# Altium footprint library AUVic_PCB_Library_Microprocessors.PcbLib: 24 footprints (part 1 of 2)
Each footprint in its own frame and in the unit in brackets; x right, y up, seen from the top. Pads: shape width x height; smd on the part's side, far side on the other; paste and mask are expansions set on the pad; w line width, h text height; cw(c..) or ccw(c..) is an arc to the next point about the centre after c.
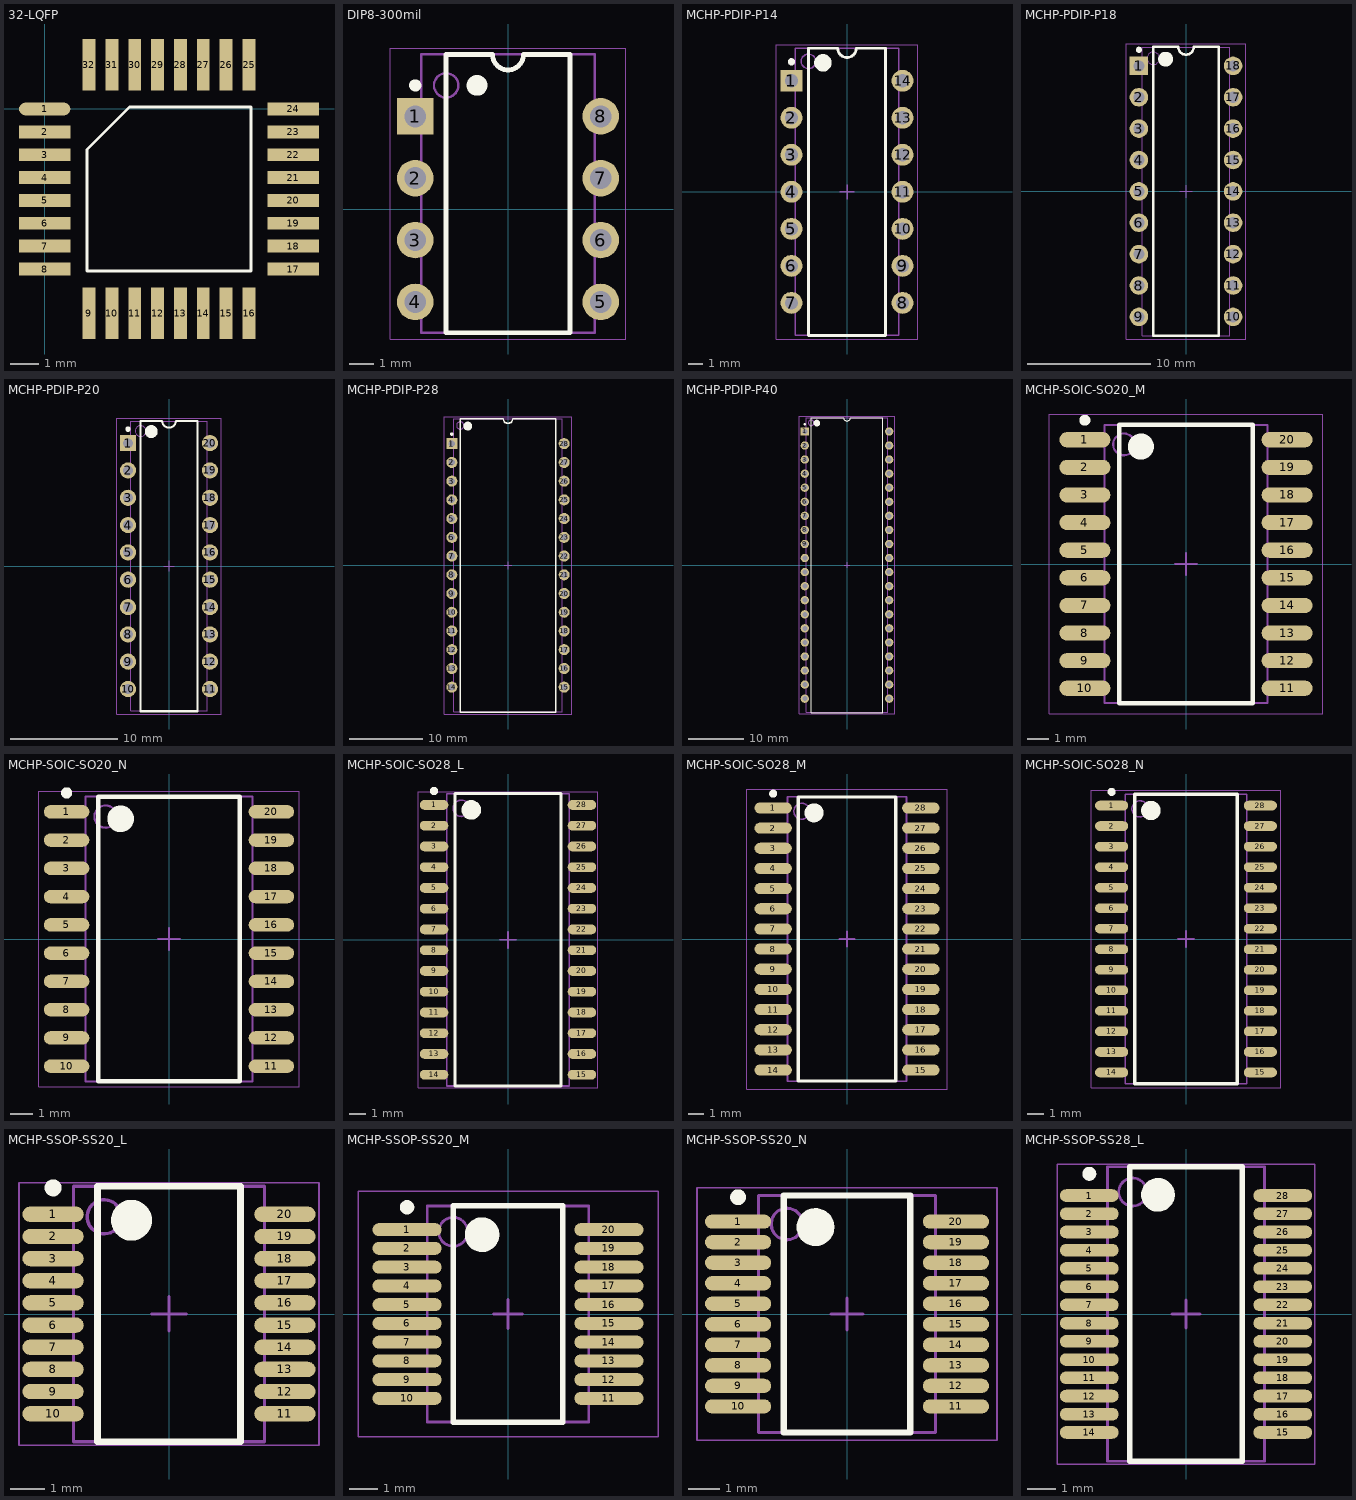
[diagram p0: the footprints below, top view; thin cyan lines are the x and y axes]

## 32-LQFP [mm]
pads (32):
  oval 1.8x0.45 smd: 1(0,0)
  rect 1.8x0.45 smd: 2(0,-0.8) 3(0,-1.6) 4(0,-2.4) 5(0,-3.2) 6(0,-4) 7(0,-4.8) 8(0,-5.6) 17(8.7,-5.6) 18(8.7,-4.8) 19(8.7,-4) 20(8.7,-3.2) 21(8.7,-2.4) 22(8.7,-1.6) 23(8.7,-0.8) 24(8.7,0)
  rect 0.45x1.8 smd: 9(1.55,-7.15) 10(2.35,-7.15) 11(3.15,-7.15) 12(3.95,-7.15) 13(4.75,-7.15) 14(5.55,-7.15) 15(6.35,-7.15) 16(7.15,-7.15) 25(7.15,1.55) 26(6.35,1.55) 27(5.55,1.55) 28(4.75,1.55) 29(3.95,1.55) 30(3.15,1.55) 31(2.35,1.55) 32(1.55,1.55)
Top Overlay:
  lines w0.1: 1.485,-5.665 7.215,-5.665 7.215,0.065 2.97,0.065 1.485,-1.42 1.485,-5.665
3D body "User Library-LQFP32-2.STEP": height 1.62, standoff -0.01, extent -0.172,-7.372 8.972,1.772

## DIP8-300mil [mm] "DIP8, 100mil pitch, 300mil wide"
pads (8):
  rect 1.5x1.5 hole 0.9: 1(-3.81,3.81)
  round 1.5 hole 0.9: 2(-3.81,1.27) 3(-3.81,-1.27) 4(-3.81,-3.81) 5(3.81,-3.81) 6(3.81,-1.27) 7(3.81,1.27) 8(3.81,3.81)
Top Overlay:
  circle w0.25: c-3.81,5.08 r0.125
  circle w0.6: c-1.27,5.08 r0.125
  lines w0.2: -2.54,-5.08 2.54,-5.08 2.54,6.35 0.635,6.35 cw(c0,6.35) -0.635,6.35 -2.54,6.35 -2.54,-5.08
Body Top:
  circle w0.1: c-2.54,5.08 r0.5
  lines w0.1: -3.556,-5.08 -3.556,6.35 3.556,6.35 3.556,-5.08 -3.556,-5.08
  text ".Designator" at 1.2,-5.5 h1
Courtyard Top:
  lines w0.05: -4.826,-5.334 -4.826,6.604 4.826,6.604 4.826,-5.334 -4.826,-5.334
3D body "CircuitWorks-DIP8(The Good One).step": height 4.19, standoff -2.67, extent -4.064,-5.715 3.81,5.715

## MCHP-PDIP-P14 [mm] "DIP, 14-Leads, Body 19.177x6.604mm, Pitch 2.54mm"
height 5.34
pads (14):
  rect 1.5x1.5 hole 0.9: 1(-3.81,7.62)
  round 1.5 hole 0.9: 2(-3.81,5.08) 3(-3.81,2.54) 4(-3.81,0) 5(-3.81,-2.54) 6(-3.81,-5.08) 7(-3.81,-7.62) 8(3.81,-7.62) 9(3.81,-5.08) 10(3.81,-2.54) 11(3.81,0) 12(3.81,2.54) 13(3.81,5.08) 14(3.81,7.62)
Top Overlay:
  circle w0.6: c-1.65,8.85 r0.3
  circle w0.25: c-3.81,8.92 r0.125
  lines w0.2: -2.65,-9.85 2.65,-9.85 2.65,9.85 0.635,9.85 cw(c0,9.85) -0.635,9.85 -2.65,9.85 -2.65,-9.85
Body Top:
  circle w0.1: c-2.65,8.95 r0.5
  lines w0.1: -3.55,-9.85 3.55,-9.85 3.55,9.85 -3.55,9.85 -3.55,-9.85
  text ".Designator" at 1.2,-5.5 h1
Courtyard Top:
  lines w0.05: -4.85,-10.1 4.85,-10.1 4.85,10.1 -4.85,10.1 -4.85,-10.1
  lines w0.1: -0.5,0 0.5,0 ; 0,-0.5 0,0.5
3D body: height 5.34, standoff 0.38, extent -3.55,-9.85 3.55,9.85
3D body: height 0, standoff -1.6, extent 3.675,7.26 3.945,7.98
3D body: height 3, standoff 2.72, extent 3.55,7.12 3.945,8.12
3D body: height 2.73, standoff 0, extent 3.675,7.12 3.945,8.12
3D body: height 0, standoff -1.6, extent 3.675,4.72 3.945,5.44
3D body: height 3, standoff 2.72, extent 3.55,4.58 3.945,5.58
3D body: height 2.73, standoff 0, extent 3.675,4.58 3.945,5.58
3D body: height 0, standoff -1.6, extent 3.675,2.18 3.945,2.9
3D body: height 3, standoff 2.72, extent 3.55,2.04 3.945,3.04
3D body: height 2.73, standoff 0, extent 3.675,2.04 3.945,3.04
3D body: height 0, standoff -1.6, extent 3.675,-0.36 3.945,0.36
3D body: height 3, standoff 2.72, extent 3.55,-0.5 3.945,0.5
3D body: height 2.73, standoff 0, extent 3.675,-0.5 3.945,0.5
3D body: height 0, standoff -1.6, extent 3.675,-2.9 3.945,-2.18
3D body: height 3, standoff 2.72, extent 3.55,-3.04 3.945,-2.04
3D body: height 2.73, standoff 0, extent 3.675,-3.04 3.945,-2.04
3D body: height 0, standoff -1.6, extent 3.675,-5.44 3.945,-4.72
3D body: height 3, standoff 2.72, extent 3.55,-5.58 3.945,-4.58
3D body: height 2.73, standoff 0, extent 3.675,-5.58 3.945,-4.58
3D body: height 0, standoff -1.6, extent 3.675,-7.98 3.945,-7.26
3D body: height 3, standoff 2.72, extent 3.55,-8.12 3.945,-7.12
3D body: height 2.73, standoff 0, extent 3.675,-8.12 3.945,-7.12
3D body: height 0, standoff -1.6, extent -3.945,-7.98 -3.675,-7.26
3D body: height 3, standoff 2.72, extent -3.945,-8.12 -3.55,-7.12
3D body: height 2.73, standoff 0, extent -3.945,-8.12 -3.675,-7.12
3D body: height 0, standoff -1.6, extent -3.945,-5.44 -3.675,-4.72
3D body: height 3, standoff 2.72, extent -3.945,-5.58 -3.55,-4.58
3D body: height 2.73, standoff 0, extent -3.945,-5.58 -3.675,-4.58
3D body: height 0, standoff -1.6, extent -3.945,-2.9 -3.675,-2.18
3D body: height 3, standoff 2.72, extent -3.945,-3.04 -3.55,-2.04
3D body: height 2.73, standoff 0, extent -3.945,-3.04 -3.675,-2.04
3D body: height 0, standoff -1.6, extent -3.945,-0.36 -3.675,0.36
3D body: height 3, standoff 2.72, extent -3.945,-0.5 -3.55,0.5
3D body: height 2.73, standoff 0, extent -3.945,-0.5 -3.675,0.5
3D body: height 0, standoff -1.6, extent -3.945,2.18 -3.675,2.9
3D body: height 3, standoff 2.72, extent -3.945,2.04 -3.55,3.04
3D body: height 2.73, standoff 0, extent -3.945,2.04 -3.675,3.04
3D body: height 0, standoff -1.6, extent -3.945,4.72 -3.675,5.44
3D body: height 3, standoff 2.72, extent -3.945,4.58 -3.55,5.58
3D body: height 2.73, standoff 0, extent -3.945,4.58 -3.675,5.58
3D body: height 0, standoff -1.6, extent -3.945,7.26 -3.675,7.98
3D body: height 3, standoff 2.72, extent -3.945,7.12 -3.55,8.12
3D body: height 2.73, standoff 0, extent -3.945,7.12 -3.675,8.12

## MCHP-PDIP-P18 [mm] "DIP, 18-Leads, Body 22.83x6.604mm, Pitch 2.54mm"
height 5.33
pads (18):
  rect 1.5x1.5 hole 0.9: 1(-3.81,10.16)
  round 1.5 hole 0.9: 2(-3.81,7.62) 3(-3.81,5.08) 4(-3.81,2.54) 5(-3.81,0) 6(-3.81,-2.54) 7(-3.81,-5.08) 8(-3.81,-7.62) 9(-3.81,-10.16) 10(3.81,-10.16) 11(3.81,-7.62) 12(3.81,-5.08) 13(3.81,-2.54) 14(3.81,0) 15(3.81,2.54) 16(3.81,5.08) 17(3.81,7.62) 18(3.81,10.16)
Top Overlay:
  circle w0.6: c-1.65,10.7 r0.3
  circle w0.25: c-3.81,11.46 r0.125
  lines w0.2: -2.65,-11.7 2.65,-11.7 2.65,11.7 0.635,11.7 cw(c0,11.7) -0.635,11.7 -2.65,11.7 -2.65,-11.7
Body Top:
  circle w0.1: c-2.65,10.775 r0.5
  lines w0.1: -3.55,-11.675 3.55,-11.675 3.55,11.675 -3.55,11.675 -3.55,-11.675
  text ".Designator" at 1.2,-5.5 h1
Courtyard Top:
  lines w0.05: -4.85,-11.95 4.85,-11.95 4.85,11.95 -4.85,11.95 -4.85,-11.95
  lines w0.1: -0.5,0 0.5,0 ; 0,-0.5 0,0.5
3D body: height 5.33, standoff 0.38, extent -3.55,-11.675 3.55,11.675
3D body: height 0, standoff -1.6, extent 3.675,9.8 3.945,10.52
3D body: height 2.99, standoff 2.72, extent 3.55,9.66 3.945,10.66
3D body: height 2.72, standoff 0, extent 3.675,9.66 3.945,10.66
3D body: height 0, standoff -1.6, extent 3.675,7.26 3.945,7.98
3D body: height 2.99, standoff 2.72, extent 3.55,7.12 3.945,8.12
3D body: height 2.72, standoff 0, extent 3.675,7.12 3.945,8.12
3D body: height 0, standoff -1.6, extent 3.675,4.72 3.945,5.44
3D body: height 2.99, standoff 2.72, extent 3.55,4.58 3.945,5.58
3D body: height 2.72, standoff 0, extent 3.675,4.58 3.945,5.58
3D body: height 0, standoff -1.6, extent 3.675,2.18 3.945,2.9
3D body: height 2.99, standoff 2.72, extent 3.55,2.04 3.945,3.04
3D body: height 2.72, standoff 0, extent 3.675,2.04 3.945,3.04
3D body: height 0, standoff -1.6, extent 3.675,-0.36 3.945,0.36
3D body: height 2.99, standoff 2.72, extent 3.55,-0.5 3.945,0.5
3D body: height 2.72, standoff 0, extent 3.675,-0.5 3.945,0.5
3D body: height 0, standoff -1.6, extent 3.675,-2.9 3.945,-2.18
3D body: height 2.99, standoff 2.72, extent 3.55,-3.04 3.945,-2.04
3D body: height 2.72, standoff 0, extent 3.675,-3.04 3.945,-2.04
3D body: height 0, standoff -1.6, extent 3.675,-5.44 3.945,-4.72
3D body: height 2.99, standoff 2.72, extent 3.55,-5.58 3.945,-4.58
3D body: height 2.72, standoff 0, extent 3.675,-5.58 3.945,-4.58
3D body: height 0, standoff -1.6, extent 3.675,-7.98 3.945,-7.26
3D body: height 2.99, standoff 2.72, extent 3.55,-8.12 3.945,-7.12
3D body: height 2.72, standoff 0, extent 3.675,-8.12 3.945,-7.12
3D body: height 0, standoff -1.6, extent 3.675,-10.52 3.945,-9.8
3D body: height 2.99, standoff 2.72, extent 3.55,-10.66 3.945,-9.66
3D body: height 2.72, standoff 0, extent 3.675,-10.66 3.945,-9.66
3D body: height 0, standoff -1.6, extent -3.945,-10.52 -3.675,-9.8
3D body: height 2.99, standoff 2.72, extent -3.945,-10.66 -3.55,-9.66
3D body: height 2.72, standoff 0, extent -3.945,-10.66 -3.675,-9.66
3D body: height 0, standoff -1.6, extent -3.945,-7.98 -3.675,-7.26
3D body: height 2.99, standoff 2.72, extent -3.945,-8.12 -3.55,-7.12
3D body: height 2.72, standoff 0, extent -3.945,-8.12 -3.675,-7.12
3D body: height 0, standoff -1.6, extent -3.945,-5.44 -3.675,-4.72
3D body: height 2.99, standoff 2.72, extent -3.945,-5.58 -3.55,-4.58
3D body: height 2.72, standoff 0, extent -3.945,-5.58 -3.675,-4.58
3D body: height 0, standoff -1.6, extent -3.945,-2.9 -3.675,-2.18
3D body: height 2.99, standoff 2.72, extent -3.945,-3.04 -3.55,-2.04
3D body: height 2.72, standoff 0, extent -3.945,-3.04 -3.675,-2.04
3D body: height 0, standoff -1.6, extent -3.945,-0.36 -3.675,0.36
3D body: height 2.99, standoff 2.72, extent -3.945,-0.5 -3.55,0.5
3D body: height 2.72, standoff 0, extent -3.945,-0.5 -3.675,0.5
3D body: height 0, standoff -1.6, extent -3.945,2.18 -3.675,2.9
3D body: height 2.99, standoff 2.72, extent -3.945,2.04 -3.55,3.04
3D body: height 2.72, standoff 0, extent -3.945,2.04 -3.675,3.04
3D body: height 0, standoff -1.6, extent -3.945,4.72 -3.675,5.44
3D body: height 2.99, standoff 2.72, extent -3.945,4.58 -3.55,5.58
3D body: height 2.72, standoff 0, extent -3.945,4.58 -3.675,5.58
3D body: height 0, standoff -1.6, extent -3.945,7.26 -3.675,7.98
3D body: height 2.99, standoff 2.72, extent -3.945,7.12 -3.55,8.12
3D body: height 2.72, standoff 0, extent -3.945,7.12 -3.675,8.12
3D body: height 0, standoff -1.6, extent -3.945,9.8 -3.675,10.52
3D body: height 2.99, standoff 2.72, extent -3.945,9.66 -3.55,10.66
3D body: height 2.72, standoff 0, extent -3.945,9.66 -3.675,10.66

## MCHP-PDIP-P20 [mm] "DIP, 20-Leads, Body 25.91x6.6mm, Pitch 2.54mm"
height 5.34
pads (20):
  rect 1.5x1.5 hole 0.9: 1(-3.81,11.43)
  round 1.5 hole 0.9: 2(-3.81,8.89) 3(-3.81,6.35) 4(-3.81,3.81) 5(-3.81,1.27) 6(-3.81,-1.27) 7(-3.81,-3.81) 8(-3.81,-6.35) 9(-3.81,-8.89) 10(-3.81,-11.43) 11(3.81,-11.43) 12(3.81,-8.89) 13(3.81,-6.35) 14(3.81,-3.81) 15(3.81,-1.27) 16(3.81,1.27) 17(3.81,3.81) 18(3.81,6.35) 19(3.81,8.89) 20(3.81,11.43)
Top Overlay:
  circle w0.25: c-3.81,12.73 r0.125
  circle w0.6: c-1.65,12.5 r0.3
  lines w0.2: -2.65,-13.5 -2.65,13.5 -0.635,13.5 ccw(c0,13.5) 0.635,13.5 2.65,13.5 2.65,-13.5 -2.65,-13.5
Body Top:
  circle w0.1: c-2.65,12.55 r0.5
  lines w0.1: -3.55,-13.45 -3.55,13.45 3.55,13.45 3.55,-13.45 -3.55,-13.45
  text ".Designator" at 1.2,-5.5 h1
Courtyard Top:
  lines w0.05: -4.85,-13.75 -4.85,13.75 4.85,13.75 4.85,-13.75 -4.85,-13.75
  lines w0.1: -0.5,0 0.5,0 ; 0,-0.5 0,0.5
3D body: height 2.72, standoff 0, extent -3.945,10.93 -3.675,11.93
3D body: height 2.99, standoff 2.72, extent -3.945,10.93 -3.55,11.93
3D body: height 0, standoff -1.6, extent -3.945,11.07 -3.675,11.79
3D body: height 2.72, standoff 0, extent -3.945,8.39 -3.675,9.39
3D body: height 2.99, standoff 2.72, extent -3.945,8.39 -3.55,9.39
3D body: height 0, standoff -1.6, extent -3.945,8.53 -3.675,9.25
3D body: height 2.72, standoff 0, extent -3.945,5.85 -3.675,6.85
3D body: height 2.99, standoff 2.72, extent -3.945,5.85 -3.55,6.85
3D body: height 0, standoff -1.6, extent -3.945,5.99 -3.675,6.71
3D body: height 2.72, standoff 0, extent -3.945,3.31 -3.675,4.31
3D body: height 2.99, standoff 2.72, extent -3.945,3.31 -3.55,4.31
3D body: height 0, standoff -1.6, extent -3.945,3.45 -3.675,4.17
3D body: height 2.72, standoff 0, extent -3.945,0.77 -3.675,1.77
3D body: height 2.99, standoff 2.72, extent -3.945,0.77 -3.55,1.77
3D body: height 0, standoff -1.6, extent -3.945,0.91 -3.675,1.63
3D body: height 2.72, standoff 0, extent -3.945,-1.77 -3.675,-0.77
3D body: height 2.99, standoff 2.72, extent -3.945,-1.77 -3.55,-0.77
3D body: height 0, standoff -1.6, extent -3.945,-1.63 -3.675,-0.91
3D body: height 2.72, standoff 0, extent -3.945,-4.31 -3.675,-3.31
3D body: height 2.99, standoff 2.72, extent -3.945,-4.31 -3.55,-3.31
3D body: height 0, standoff -1.6, extent -3.945,-4.17 -3.675,-3.45
3D body: height 2.72, standoff 0, extent -3.945,-6.85 -3.675,-5.85
3D body: height 2.99, standoff 2.72, extent -3.945,-6.85 -3.55,-5.85
3D body: height 0, standoff -1.6, extent -3.945,-6.71 -3.675,-5.99
3D body: height 2.72, standoff 0, extent -3.945,-9.39 -3.675,-8.39
3D body: height 2.99, standoff 2.72, extent -3.945,-9.39 -3.55,-8.39
3D body: height 0, standoff -1.6, extent -3.945,-9.25 -3.675,-8.53
3D body: height 2.72, standoff 0, extent -3.945,-11.93 -3.675,-10.93
3D body: height 2.99, standoff 2.72, extent -3.945,-11.93 -3.55,-10.93
3D body: height 0, standoff -1.6, extent -3.945,-11.79 -3.675,-11.07
3D body: height 2.72, standoff 0, extent 3.675,-11.93 3.945,-10.93
3D body: height 2.99, standoff 2.72, extent 3.55,-11.93 3.945,-10.93
3D body: height 0, standoff -1.6, extent 3.675,-11.79 3.945,-11.07
3D body: height 2.72, standoff 0, extent 3.675,-9.39 3.945,-8.39
3D body: height 2.99, standoff 2.72, extent 3.55,-9.39 3.945,-8.39
3D body: height 0, standoff -1.6, extent 3.675,-9.25 3.945,-8.53
3D body: height 2.72, standoff 0, extent 3.675,-6.85 3.945,-5.85
3D body: height 2.99, standoff 2.72, extent 3.55,-6.85 3.945,-5.85
3D body: height 0, standoff -1.6, extent 3.675,-6.71 3.945,-5.99
3D body: height 2.72, standoff 0, extent 3.675,-4.31 3.945,-3.31
3D body: height 2.99, standoff 2.72, extent 3.55,-4.31 3.945,-3.31
3D body: height 0, standoff -1.6, extent 3.675,-4.17 3.945,-3.45
3D body: height 2.72, standoff 0, extent 3.675,-1.77 3.945,-0.77
3D body: height 2.99, standoff 2.72, extent 3.55,-1.77 3.945,-0.77
3D body: height 0, standoff -1.6, extent 3.675,-1.63 3.945,-0.91
3D body: height 2.72, standoff 0, extent 3.675,0.77 3.945,1.77
3D body: height 2.99, standoff 2.72, extent 3.55,0.77 3.945,1.77
3D body: height 0, standoff -1.6, extent 3.675,0.91 3.945,1.63
3D body: height 2.72, standoff 0, extent 3.675,3.31 3.945,4.31
3D body: height 2.99, standoff 2.72, extent 3.55,3.31 3.945,4.31
3D body: height 0, standoff -1.6, extent 3.675,3.45 3.945,4.17
3D body: height 2.72, standoff 0, extent 3.675,5.85 3.945,6.85
3D body: height 2.99, standoff 2.72, extent 3.55,5.85 3.945,6.85
3D body: height 0, standoff -1.6, extent 3.675,5.99 3.945,6.71
3D body: height 2.72, standoff 0, extent 3.675,8.39 3.945,9.39
3D body: height 2.99, standoff 2.72, extent 3.55,8.39 3.945,9.39
3D body: height 0, standoff -1.6, extent 3.675,8.53 3.945,9.25
3D body: height 2.72, standoff 0, extent 3.675,10.93 3.945,11.93
3D body: height 2.99, standoff 2.72, extent 3.55,10.93 3.945,11.93
3D body: height 0, standoff -1.6, extent 3.675,11.07 3.945,11.79
3D body: height 5.34, standoff 0.38, extent -3.55,-13.45 3.55,13.45

## MCHP-PDIP-P28 [mm] "DIP, 28-Leads, Body 37.4x13.53mm, Pitch 2.54mm"
height 6.35
pads (28):
  rect 1.5x1.5 hole 0.9: 1(-7.62,16.51)
  round 1.5 hole 0.9: 2(-7.62,13.97) 3(-7.62,11.43) 4(-7.62,8.89) 5(-7.62,6.35) 6(-7.62,3.81) 7(-7.62,1.27) 8(-7.62,-1.27) 9(-7.62,-3.81) 10(-7.62,-6.35) 11(-7.62,-8.89) 12(-7.62,-11.43) 13(-7.62,-13.97) 14(-7.62,-16.51) 15(7.62,-16.51) 16(7.62,-13.97) 17(7.62,-11.43) 18(7.62,-8.89) 19(7.62,-6.35) 20(7.62,-3.81) 21(7.62,-1.27) 22(7.62,1.27) 23(7.62,3.81) 24(7.62,6.35) 25(7.62,8.89) 26(7.62,11.43) 27(7.62,13.97) 28(7.62,16.51)
Top Overlay:
  circle w0.25: c-7.62,17.81 r0.125
  circle w0.6: c-5.45,18.9 r0.3
  lines w0.2: -6.45,-19.9 -6.45,19.9 -0.635,19.9 ccw(c0,19.9) 0.635,19.9 6.45,19.9 6.45,-19.9 -6.45,-19.9
Body Top:
  circle w0.1: c-6.475,18.975 r0.5
  lines w0.1: -7.375,-19.875 -7.375,19.875 7.375,19.875 7.375,-19.875 -7.375,-19.875
Courtyard Top:
  lines w0.05: -8.65,-20.15 -8.65,20.15 8.65,20.15 8.65,-20.15 -8.65,-20.15
  lines w0.1: -0.5,0 0.5,0 ; 0,-0.5 0,0.5
3D body: height 6.35, standoff 0.38, extent -7.375,-19.875 7.375,19.875
3D body: height 3.24, standoff 0, extent -7.755,16.01 -7.485,17.01
3D body: height 3.51, standoff 3.23, extent -7.755,16.01 -7.375,17.01
3D body: height 0, standoff -1.6, extent -7.755,16.15 -7.485,16.87
3D body: height 3.24, standoff 0, extent -7.755,13.47 -7.485,14.47
3D body: height 3.51, standoff 3.23, extent -7.755,13.47 -7.375,14.47
3D body: height 0, standoff -1.6, extent -7.755,13.61 -7.485,14.33
3D body: height 3.24, standoff 0, extent -7.755,10.93 -7.485,11.93
3D body: height 3.51, standoff 3.23, extent -7.755,10.93 -7.375,11.93
3D body: height 0, standoff -1.6, extent -7.755,11.07 -7.485,11.79
3D body: height 3.24, standoff 0, extent -7.755,8.39 -7.485,9.39
3D body: height 3.51, standoff 3.23, extent -7.755,8.39 -7.375,9.39
3D body: height 0, standoff -1.6, extent -7.755,8.53 -7.485,9.25
3D body: height 3.24, standoff 0, extent -7.755,5.85 -7.485,6.85
3D body: height 3.51, standoff 3.23, extent -7.755,5.85 -7.375,6.85
3D body: height 0, standoff -1.6, extent -7.755,5.99 -7.485,6.71
3D body: height 3.24, standoff 0, extent -7.755,3.31 -7.485,4.31
3D body: height 3.51, standoff 3.23, extent -7.755,3.31 -7.375,4.31
3D body: height 0, standoff -1.6, extent -7.755,3.45 -7.485,4.17
3D body: height 3.24, standoff 0, extent -7.755,0.77 -7.485,1.77
3D body: height 3.51, standoff 3.23, extent -7.755,0.77 -7.375,1.77
3D body: height 0, standoff -1.6, extent -7.755,0.91 -7.485,1.63
3D body: height 3.24, standoff 0, extent -7.755,-1.77 -7.485,-0.77
3D body: height 3.51, standoff 3.23, extent -7.755,-1.77 -7.375,-0.77
3D body: height 0, standoff -1.6, extent -7.755,-1.63 -7.485,-0.91
3D body: height 3.24, standoff 0, extent -7.755,-4.31 -7.485,-3.31
3D body: height 3.51, standoff 3.23, extent -7.755,-4.31 -7.375,-3.31
3D body: height 0, standoff -1.6, extent -7.755,-4.17 -7.485,-3.45
3D body: height 3.24, standoff 0, extent -7.755,-6.85 -7.485,-5.85
3D body: height 3.51, standoff 3.23, extent -7.755,-6.85 -7.375,-5.85
3D body: height 0, standoff -1.6, extent -7.755,-6.71 -7.485,-5.99
3D body: height 3.24, standoff 0, extent -7.755,-9.39 -7.485,-8.39
3D body: height 3.51, standoff 3.23, extent -7.755,-9.39 -7.375,-8.39
3D body: height 0, standoff -1.6, extent -7.755,-9.25 -7.485,-8.53
3D body: height 3.24, standoff 0, extent -7.755,-11.93 -7.485,-10.93
3D body: height 3.51, standoff 3.23, extent -7.755,-11.93 -7.375,-10.93
3D body: height 0, standoff -1.6, extent -7.755,-11.79 -7.485,-11.07
3D body: height 3.24, standoff 0, extent -7.755,-14.47 -7.485,-13.47
3D body: height 3.51, standoff 3.23, extent -7.755,-14.47 -7.375,-13.47
3D body: height 0, standoff -1.6, extent -7.755,-14.33 -7.485,-13.61
3D body: height 3.24, standoff 0, extent -7.755,-17.01 -7.485,-16.01
3D body: height 3.51, standoff 3.23, extent -7.755,-17.01 -7.375,-16.01
3D body: height 0, standoff -1.6, extent -7.755,-16.87 -7.485,-16.15
3D body: height 3.24, standoff 0, extent 7.485,-17.01 7.755,-16.01
3D body: height 3.51, standoff 3.23, extent 7.375,-17.01 7.755,-16.01
3D body: height 0, standoff -1.6, extent 7.485,-16.87 7.755,-16.15
3D body: height 3.24, standoff 0, extent 7.485,-14.47 7.755,-13.47
3D body: height 3.51, standoff 3.23, extent 7.375,-14.47 7.755,-13.47
3D body: height 0, standoff -1.6, extent 7.485,-14.33 7.755,-13.61
3D body: height 3.24, standoff 0, extent 7.485,-11.93 7.755,-10.93
3D body: height 3.51, standoff 3.23, extent 7.375,-11.93 7.755,-10.93
3D body: height 0, standoff -1.6, extent 7.485,-11.79 7.755,-11.07
3D body: height 3.24, standoff 0, extent 7.485,-9.39 7.755,-8.39
3D body: height 3.51, standoff 3.23, extent 7.375,-9.39 7.755,-8.39
3D body: height 0, standoff -1.6, extent 7.485,-9.25 7.755,-8.53
3D body: height 3.24, standoff 0, extent 7.485,-6.85 7.755,-5.85
3D body: height 3.51, standoff 3.23, extent 7.375,-6.85 7.755,-5.85
3D body: height 0, standoff -1.6, extent 7.485,-6.71 7.755,-5.99
3D body: height 3.24, standoff 0, extent 7.485,-4.31 7.755,-3.31
3D body: height 3.51, standoff 3.23, extent 7.375,-4.31 7.755,-3.31
3D body: height 0, standoff -1.6, extent 7.485,-4.17 7.755,-3.45
3D body: height 3.24, standoff 0, extent 7.485,-1.77 7.755,-0.77
3D body: height 3.51, standoff 3.23, extent 7.375,-1.77 7.755,-0.77
3D body: height 0, standoff -1.6, extent 7.485,-1.63 7.755,-0.91
3D body: height 3.24, standoff 0, extent 7.485,0.77 7.755,1.77
3D body: height 3.51, standoff 3.23, extent 7.375,0.77 7.755,1.77
3D body: height 0, standoff -1.6, extent 7.485,0.91 7.755,1.63
3D body: height 3.24, standoff 0, extent 7.485,3.31 7.755,4.31
3D body: height 3.51, standoff 3.23, extent 7.375,3.31 7.755,4.31
3D body: height 0, standoff -1.6, extent 7.485,3.45 7.755,4.17
3D body: height 3.24, standoff 0, extent 7.485,5.85 7.755,6.85
3D body: height 3.51, standoff 3.23, extent 7.375,5.85 7.755,6.85
3D body: height 0, standoff -1.6, extent 7.485,5.99 7.755,6.71
3D body: height 3.24, standoff 0, extent 7.485,8.39 7.755,9.39
3D body: height 3.51, standoff 3.23, extent 7.375,8.39 7.755,9.39
3D body: height 0, standoff -1.6, extent 7.485,8.53 7.755,9.25
3D body: height 3.24, standoff 0, extent 7.485,10.93 7.755,11.93
3D body: height 3.51, standoff 3.23, extent 7.375,10.93 7.755,11.93
3D body: height 0, standoff -1.6, extent 7.485,11.07 7.755,11.79
3D body: height 3.24, standoff 0, extent 7.485,13.47 7.755,14.47
3D body: height 3.51, standoff 3.23, extent 7.375,13.47 7.755,14.47
3D body: height 0, standoff -1.6, extent 7.485,13.61 7.755,14.33
3D body: height 3.24, standoff 0, extent 7.485,16.01 7.755,17.01
3D body: height 3.51, standoff 3.23, extent 7.375,16.01 7.755,17.01
3D body: height 0, standoff -1.6, extent 7.485,16.15 7.755,16.87

## MCHP-PDIP-P40 [mm] "PDIP, 40-Leads, Body 51.75x13.53mm, Pitch 2.54mm"
height 6.35
pads (40):
  rect 1.5x1.5 hole 0.9: 1(-7.62,24.13)
  round 1.5 hole 0.9: 2(-7.62,21.59) 3(-7.62,19.05) 4(-7.62,16.51) 5(-7.62,13.97) 6(-7.62,11.43) 7(-7.62,8.89) 8(-7.62,6.35) 9(-7.62,3.81) 10(-7.62,1.27) 11(-7.62,-1.27) 12(-7.62,-3.81) 13(-7.62,-6.35) 14(-7.62,-8.89) 15(-7.62,-11.43) 16(-7.62,-13.97) 17(-7.62,-16.51) 18(-7.62,-19.05) 19(-7.62,-21.59) 20(-7.62,-24.13) 21(7.62,-24.13) 22(7.62,-21.59) 23(7.62,-19.05) 24(7.62,-16.51) 25(7.62,-13.97) 26(7.62,-11.43) 27(7.62,-8.89) 28(7.62,-6.35) 29(7.62,-3.81) 30(7.62,-1.27) 31(7.62,1.27) 32(7.62,3.81) 33(7.62,6.35) 34(7.62,8.89) 35(7.62,11.43) 36(7.62,13.97) 37(7.62,16.51) 38(7.62,19.05) 39(7.62,21.59) 40(7.62,24.13)
Top Overlay:
  circle w0.6: c-5.45,25.65 r0.3
  circle w0.25: c-7.62,25.43 r0.125
  lines w0.2: -6.45,-26.65 6.45,-26.65 6.45,26.65 0.635,26.65 cw(c0,26.65) -0.635,26.65 -6.45,26.65 -6.45,-26.65
Body Top:
  circle w0.1: c-6.475,25.7 r0.5
  lines w0.1: -7.375,-26.6 7.375,-26.6 7.375,26.6 -7.375,26.6 -7.375,-26.6
  text ".Designator" at 1.4,-10.2 h2
Courtyard Top:
  lines w0.05: -8.65,-26.9 8.65,-26.9 8.65,26.9 -8.65,26.9 -8.65,-26.9
  lines w0.1: -0.5,0 0.5,0 ; 0,-0.5 0,0.5
3D body: height 6.35, standoff 0.38, extent -7.375,-26.6 7.375,26.6
3D body: height 0, standoff -1.6, extent 7.485,23.77 7.755,24.49
3D body: height 3.51, standoff 3.23, extent 7.375,23.63 7.755,24.63
3D body: height 3.24, standoff 0, extent 7.485,23.63 7.755,24.63
3D body: height 0, standoff -1.6, extent 7.485,21.23 7.755,21.95
3D body: height 3.51, standoff 3.23, extent 7.375,21.09 7.755,22.09
3D body: height 3.24, standoff 0, extent 7.485,21.09 7.755,22.09
3D body: height 0, standoff -1.6, extent 7.485,18.69 7.755,19.41
3D body: height 3.51, standoff 3.23, extent 7.375,18.55 7.755,19.55
3D body: height 3.24, standoff 0, extent 7.485,18.55 7.755,19.55
3D body: height 0, standoff -1.6, extent 7.485,16.15 7.755,16.87
3D body: height 3.51, standoff 3.23, extent 7.375,16.01 7.755,17.01
3D body: height 3.24, standoff 0, extent 7.485,16.01 7.755,17.01
3D body: height 0, standoff -1.6, extent 7.485,13.61 7.755,14.33
3D body: height 3.51, standoff 3.23, extent 7.375,13.47 7.755,14.47
3D body: height 3.24, standoff 0, extent 7.485,13.47 7.755,14.47
3D body: height 0, standoff -1.6, extent 7.485,11.07 7.755,11.79
3D body: height 3.51, standoff 3.23, extent 7.375,10.93 7.755,11.93
3D body: height 3.24, standoff 0, extent 7.485,10.93 7.755,11.93
3D body: height 0, standoff -1.6, extent 7.485,8.53 7.755,9.25
3D body: height 3.51, standoff 3.23, extent 7.375,8.39 7.755,9.39
3D body: height 3.24, standoff 0, extent 7.485,8.39 7.755,9.39
3D body: height 0, standoff -1.6, extent 7.485,5.99 7.755,6.71
3D body: height 3.51, standoff 3.23, extent 7.375,5.85 7.755,6.85
3D body: height 3.24, standoff 0, extent 7.485,5.85 7.755,6.85
3D body: height 0, standoff -1.6, extent 7.485,3.45 7.755,4.17
3D body: height 3.51, standoff 3.23, extent 7.375,3.31 7.755,4.31
3D body: height 3.24, standoff 0, extent 7.485,3.31 7.755,4.31
3D body: height 0, standoff -1.6, extent 7.485,0.91 7.755,1.63
3D body: height 3.51, standoff 3.23, extent 7.375,0.77 7.755,1.77
3D body: height 3.24, standoff 0, extent 7.485,0.77 7.755,1.77
3D body: height 0, standoff -1.6, extent 7.485,-1.63 7.755,-0.91
3D body: height 3.51, standoff 3.23, extent 7.375,-1.77 7.755,-0.77
3D body: height 3.24, standoff 0, extent 7.485,-1.77 7.755,-0.77
3D body: height 0, standoff -1.6, extent 7.485,-4.17 7.755,-3.45
3D body: height 3.51, standoff 3.23, extent 7.375,-4.31 7.755,-3.31
3D body: height 3.24, standoff 0, extent 7.485,-4.31 7.755,-3.31
3D body: height 0, standoff -1.6, extent 7.485,-6.71 7.755,-5.99
3D body: height 3.51, standoff 3.23, extent 7.375,-6.85 7.755,-5.85
3D body: height 3.24, standoff 0, extent 7.485,-6.85 7.755,-5.85
3D body: height 0, standoff -1.6, extent 7.485,-9.25 7.755,-8.53
3D body: height 3.51, standoff 3.23, extent 7.375,-9.39 7.755,-8.39
3D body: height 3.24, standoff 0, extent 7.485,-9.39 7.755,-8.39
3D body: height 0, standoff -1.6, extent 7.485,-11.79 7.755,-11.07
3D body: height 3.51, standoff 3.23, extent 7.375,-11.93 7.755,-10.93
3D body: height 3.24, standoff 0, extent 7.485,-11.93 7.755,-10.93
3D body: height 0, standoff -1.6, extent 7.485,-14.33 7.755,-13.61
3D body: height 3.51, standoff 3.23, extent 7.375,-14.47 7.755,-13.47
3D body: height 3.24, standoff 0, extent 7.485,-14.47 7.755,-13.47
3D body: height 0, standoff -1.6, extent 7.485,-16.87 7.755,-16.15
3D body: height 3.51, standoff 3.23, extent 7.375,-17.01 7.755,-16.01
3D body: height 3.24, standoff 0, extent 7.485,-17.01 7.755,-16.01
3D body: height 0, standoff -1.6, extent 7.485,-19.41 7.755,-18.69
3D body: height 3.51, standoff 3.23, extent 7.375,-19.55 7.755,-18.55
3D body: height 3.24, standoff 0, extent 7.485,-19.55 7.755,-18.55
3D body: height 0, standoff -1.6, extent 7.485,-21.95 7.755,-21.23
3D body: height 3.51, standoff 3.23, extent 7.375,-22.09 7.755,-21.09
3D body: height 3.24, standoff 0, extent 7.485,-22.09 7.755,-21.09
3D body: height 0, standoff -1.6, extent 7.485,-24.49 7.755,-23.77
3D body: height 3.51, standoff 3.23, extent 7.375,-24.63 7.755,-23.63
3D body: height 3.24, standoff 0, extent 7.485,-24.63 7.755,-23.63
3D body: height 0, standoff -1.6, extent -7.755,-24.49 -7.485,-23.77
3D body: height 3.51, standoff 3.23, extent -7.755,-24.63 -7.375,-23.63
3D body: height 3.24, standoff 0, extent -7.755,-24.63 -7.485,-23.63
3D body: height 0, standoff -1.6, extent -7.755,-21.95 -7.485,-21.23
3D body: height 3.51, standoff 3.23, extent -7.755,-22.09 -7.375,-21.09
3D body: height 3.24, standoff 0, extent -7.755,-22.09 -7.485,-21.09
3D body: height 0, standoff -1.6, extent -7.755,-19.41 -7.485,-18.69
3D body: height 3.51, standoff 3.23, extent -7.755,-19.55 -7.375,-18.55
3D body: height 3.24, standoff 0, extent -7.755,-19.55 -7.485,-18.55
3D body: height 0, standoff -1.6, extent -7.755,-16.87 -7.485,-16.15
3D body: height 3.51, standoff 3.23, extent -7.755,-17.01 -7.375,-16.01
3D body: height 3.24, standoff 0, extent -7.755,-17.01 -7.485,-16.01
3D body: height 0, standoff -1.6, extent -7.755,-14.33 -7.485,-13.61
3D body: height 3.51, standoff 3.23, extent -7.755,-14.47 -7.375,-13.47
3D body: height 3.24, standoff 0, extent -7.755,-14.47 -7.485,-13.47
3D body: height 0, standoff -1.6, extent -7.755,-11.79 -7.485,-11.07
3D body: height 3.51, standoff 3.23, extent -7.755,-11.93 -7.375,-10.93
3D body: height 3.24, standoff 0, extent -7.755,-11.93 -7.485,-10.93
3D body: height 0, standoff -1.6, extent -7.755,-9.25 -7.485,-8.53
3D body: height 3.51, standoff 3.23, extent -7.755,-9.39 -7.375,-8.39
3D body: height 3.24, standoff 0, extent -7.755,-9.39 -7.485,-8.39
3D body: height 0, standoff -1.6, extent -7.755,-6.71 -7.485,-5.99
3D body: height 3.51, standoff 3.23, extent -7.755,-6.85 -7.375,-5.85
3D body: height 3.24, standoff 0, extent -7.755,-6.85 -7.485,-5.85
3D body: height 0, standoff -1.6, extent -7.755,-4.17 -7.485,-3.45
3D body: height 3.51, standoff 3.23, extent -7.755,-4.31 -7.375,-3.31
3D body: height 3.24, standoff 0, extent -7.755,-4.31 -7.485,-3.31
3D body: height 0, standoff -1.6, extent -7.755,-1.63 -7.485,-0.91
3D body: height 3.51, standoff 3.23, extent -7.755,-1.77 -7.375,-0.77
3D body: height 3.24, standoff 0, extent -7.755,-1.77 -7.485,-0.77
3D body: height 0, standoff -1.6, extent -7.755,0.91 -7.485,1.63
3D body: height 3.51, standoff 3.23, extent -7.755,0.77 -7.375,1.77
3D body: height 3.24, standoff 0, extent -7.755,0.77 -7.485,1.77
3D body: height 0, standoff -1.6, extent -7.755,3.45 -7.485,4.17
3D body: height 3.51, standoff 3.23, extent -7.755,3.31 -7.375,4.31
3D body: height 3.24, standoff 0, extent -7.755,3.31 -7.485,4.31
3D body: height 0, standoff -1.6, extent -7.755,5.99 -7.485,6.71
3D body: height 3.51, standoff 3.23, extent -7.755,5.85 -7.375,6.85
3D body: height 3.24, standoff 0, extent -7.755,5.85 -7.485,6.85
3D body: height 0, standoff -1.6, extent -7.755,8.53 -7.485,9.25
3D body: height 3.51, standoff 3.23, extent -7.755,8.39 -7.375,9.39
3D body: height 3.24, standoff 0, extent -7.755,8.39 -7.485,9.39
3D body: height 0, standoff -1.6, extent -7.755,11.07 -7.485,11.79
3D body: height 3.51, standoff 3.23, extent -7.755,10.93 -7.375,11.93
3D body: height 3.24, standoff 0, extent -7.755,10.93 -7.485,11.93
3D body: height 0, standoff -1.6, extent -7.755,13.61 -7.485,14.33
3D body: height 3.51, standoff 3.23, extent -7.755,13.47 -7.375,14.47
3D body: height 3.24, standoff 0, extent -7.755,13.47 -7.485,14.47
3D body: height 0, standoff -1.6, extent -7.755,16.15 -7.485,16.87
3D body: height 3.51, standoff 3.23, extent -7.755,16.01 -7.375,17.01
3D body: height 3.24, standoff 0, extent -7.755,16.01 -7.485,17.01
3D body: height 0, standoff -1.6, extent -7.755,18.69 -7.485,19.41
3D body: height 3.51, standoff 3.23, extent -7.755,18.55 -7.375,19.55
3D body: height 3.24, standoff 0, extent -7.755,18.55 -7.485,19.55
3D body: height 0, standoff -1.6, extent -7.755,21.23 -7.485,21.95
3D body: height 3.51, standoff 3.23, extent -7.755,21.09 -7.375,22.09
3D body: height 3.24, standoff 0, extent -7.755,21.09 -7.485,22.09
3D body: height 0, standoff -1.6, extent -7.755,23.77 -7.485,24.49
3D body: height 3.51, standoff 3.23, extent -7.755,23.63 -7.375,24.63
3D body: height 3.24, standoff 0, extent -7.755,23.63 -7.485,24.63

## MCHP-SOIC-SO20_M [mm] "SOIC, 20-Leads, Body 12.8x7.5mm, Pitch 1.27mm, IPC Low Density"
height 2.65
pads (20):
  oval 2.35x0.7 smd: 1(-4.65,5.715) 2(-4.65,4.445) 3(-4.65,3.175) 4(-4.65,1.905) 5(-4.65,0.635) 6(-4.65,-0.635) 7(-4.65,-1.905) 8(-4.65,-3.175) 9(-4.65,-4.445) 10(-4.65,-5.715) 11(4.65,-5.715) 12(4.65,-4.445) 13(4.65,-3.175) 14(4.65,-1.905) 15(4.65,-0.635) 16(4.65,0.635) 17(4.65,1.905) 18(4.65,3.175) 19(4.65,4.445) 20(4.65,5.715)
Top Overlay:
  circle w0.25: c-4.65,6.615 r0.125
  circle w0.6: c-2.075,5.4 r0.3
  lines w0.2: -3.075,-6.4 -3.075,6.4 3.075,6.4 3.075,-6.4 -3.075,-6.4
Body Top:
  circle w0.1: c-2.85,5.5 r0.5
  lines w0.1: -3.75,-6.4 -3.75,6.4 3.75,6.4 3.75,-6.4 -3.75,-6.4
  text ".Designator" at 1.2,-5.5 h1
Courtyard Top:
  lines w0.05: -6.3,-6.9 -6.3,6.9 6.3,6.9 6.3,-6.9 -6.3,-6.9
  lines w0.1: -0.5,0 0.5,0 ; 0,-0.5 0,0.5
3D body: height 2.65, standoff 0.1, extent -3.75,-6.4 3.75,6.4

## MCHP-SOIC-SO20_N [mm] "SOIC, 20-Leads, Body 12.8x7.5mm, Pitch 1.27mm, IPC Medium Density"
height 2.65
pads (20):
  oval 2.05x0.6 smd: 1(-4.6,5.715) 2(-4.6,4.445) 3(-4.6,3.175) 4(-4.6,1.905) 5(-4.6,0.635) 6(-4.6,-0.635) 7(-4.6,-1.905) 8(-4.6,-3.175) 9(-4.6,-4.445) 10(-4.6,-5.715) 11(4.6,-5.715) 12(4.6,-4.445) 13(4.6,-3.175) 14(4.6,-1.905) 15(4.6,-0.635) 16(4.6,0.635) 17(4.6,1.905) 18(4.6,3.175) 19(4.6,4.445) 20(4.6,5.715)
Top Overlay:
  circle w0.6: c-2.175,5.4 r0.3
  circle w0.25: c-4.6,6.565 r0.125
  lines w0.2: -3.175,-6.4 3.175,-6.4 3.175,6.4 -3.175,6.4 -3.175,-6.4
Body Top:
  circle w0.1: c-2.85,5.5 r0.5
  lines w0.1: -3.75,-6.4 3.75,-6.4 3.75,6.4 -3.75,6.4 -3.75,-6.4
  text ".Designator" at 1.2,-5.5 h1
Courtyard Top:
  lines w0.05: -5.85,-6.65 5.85,-6.65 5.85,6.65 -5.85,6.65 -5.85,-6.65
  lines w0.1: -0.5,0 0.5,0 ; 0,-0.5 0,0.5
3D body: height 2.65, standoff 0.1, extent -3.75,-6.4 3.75,6.4

## MCHP-SOIC-SO28_L [mm] "SOIC, 28-Leads, Body 17.9x7.5mm, Pitch 1.27mm, IPC High Density"
height 2.65
pads (28):
  oval 1.75x0.6 smd: 1(-4.525,8.255) 2(-4.525,6.985) 3(-4.525,5.715) 4(-4.525,4.445) 5(-4.525,3.175) 6(-4.525,1.905) 7(-4.525,0.635) 8(-4.525,-0.635) 9(-4.525,-1.905) 10(-4.525,-3.175) 11(-4.525,-4.445) 12(-4.525,-5.715) 13(-4.525,-6.985) 14(-4.525,-8.255) 15(4.525,-8.255) 16(4.525,-6.985) 17(4.525,-5.715) 18(4.525,-4.445) 19(4.525,-3.175) 20(4.525,-1.905) 21(4.525,-0.635) 22(4.525,0.635) 23(4.525,1.905) 24(4.525,3.175) 25(4.525,4.445) 26(4.525,5.715) 27(4.525,6.985) 28(4.525,8.255)
Top Overlay:
  circle w0.6: c-2.25,7.95 r0.3
  circle w0.25: c-4.525,9.105 r0.125
  lines w0.2: -3.25,-8.95 3.25,-8.95 3.25,8.95 -3.25,8.95 -3.25,-8.95
Body Top:
  circle w0.1: c-2.85,8.05 r0.5
  lines w0.1: -3.75,-8.95 3.75,-8.95 3.75,8.95 -3.75,8.95 -3.75,-8.95
  text ".Designator" at 1.2,-5.5 h1
Courtyard Top:
  lines w0.05: -5.5,-9.05 5.5,-9.05 5.5,9.05 -5.5,9.05 -5.5,-9.05
  lines w0.1: -0.5,0 0.5,0 ; 0,-0.5 0,0.5
3D body: height 2.65, standoff 0.1, extent -3.75,-8.95 3.75,8.95

## MCHP-SOIC-SO28_M [mm] "SOIC, 28-Leads, Body 17.9x7.5mm, Pitch 1.27mm, IPC Low Density"
height 2.65
pads (28):
  oval 2.35x0.7 smd: 1(-4.65,8.255) 2(-4.65,6.985) 3(-4.65,5.715) 4(-4.65,4.445) 5(-4.65,3.175) 6(-4.65,1.905) 7(-4.65,0.635) 8(-4.65,-0.635) 9(-4.65,-1.905) 10(-4.65,-3.175) 11(-4.65,-4.445) 12(-4.65,-5.715) 13(-4.65,-6.985) 14(-4.65,-8.255) 15(4.65,-8.255) 16(4.65,-6.985) 17(4.65,-5.715) 18(4.65,-4.445) 19(4.65,-3.175) 20(4.65,-1.905) 21(4.65,-0.635) 22(4.65,0.635) 23(4.65,1.905) 24(4.65,3.175) 25(4.65,4.445) 26(4.65,5.715) 27(4.65,6.985) 28(4.65,8.255)
Top Overlay:
  circle w0.25: c-4.65,9.155 r0.125
  circle w0.6: c-2.075,7.95 r0.3
  lines w0.2: -3.075,-8.95 -3.075,8.95 3.075,8.95 3.075,-8.95 -3.075,-8.95
Body Top:
  circle w0.1: c-2.85,8.05 r0.5
  lines w0.1: -3.75,-8.95 -3.75,8.95 3.75,8.95 3.75,-8.95 -3.75,-8.95
  text ".Designator" at 1.2,-5.5 h1
Courtyard Top:
  lines w0.05: -6.3,-9.45 -6.3,9.45 6.3,9.45 6.3,-9.45 -6.3,-9.45
  lines w0.1: -0.5,0 0.5,0 ; 0,-0.5 0,0.5
3D body: height 2.65, standoff 0.1, extent -3.75,-8.95 3.75,8.95

## MCHP-SOIC-SO28_N [mm] "SOIC, 28-Leads, Body 17.9x7.5mm, Pitch 1.27mm, IPC Medium Density"
height 2.65
pads (28):
  oval 2.05x0.6 smd: 1(-4.6,8.255) 2(-4.6,6.985) 3(-4.6,5.715) 4(-4.6,4.445) 5(-4.6,3.175) 6(-4.6,1.905) 7(-4.6,0.635) 8(-4.6,-0.635) 9(-4.6,-1.905) 10(-4.6,-3.175) 11(-4.6,-4.445) 12(-4.6,-5.715) 13(-4.6,-6.985) 14(-4.6,-8.255) 15(4.6,-8.255) 16(4.6,-6.985) 17(4.6,-5.715) 18(4.6,-4.445) 19(4.6,-3.175) 20(4.6,-1.905) 21(4.6,-0.635) 22(4.6,0.635) 23(4.6,1.905) 24(4.6,3.175) 25(4.6,4.445) 26(4.6,5.715) 27(4.6,6.985) 28(4.6,8.255)
Top Overlay:
  circle w0.25: c-4.6,9.105 r0.125
  circle w0.6: c-2.175,7.95 r0.3
  lines w0.2: -3.175,-8.95 -3.175,8.95 3.175,8.95 3.175,-8.95 -3.175,-8.95
Body Top:
  circle w0.1: c-2.85,8.05 r0.5
  lines w0.1: -3.75,-8.95 -3.75,8.95 3.75,8.95 3.75,-8.95 -3.75,-8.95
  text ".Designator" at 1.2,-5.5 h1
Courtyard Top:
  lines w0.05: -5.85,-9.2 -5.85,9.2 5.85,9.2 5.85,-9.2 -5.85,-9.2
  lines w0.1: -0.5,0 0.5,0 ; 0,-0.5 0,0.5
3D body: height 2.65, standoff 0.1, extent -3.75,-8.95 3.75,8.95

## MCHP-SSOP-SS20_L [mm] "SOP, 20-Leads, Body 7.2x5.3mm, Pitch 0.65mm, IPC High Density"
height 2
pads (20):
  oval 1.8x0.45 smd: 1(-3.4,2.925) 2(-3.4,2.275) 3(-3.4,1.625) 4(-3.4,0.975) 5(-3.4,0.325) 6(-3.4,-0.325) 7(-3.4,-0.975) 8(-3.4,-1.625) 9(-3.4,-2.275) 10(-3.4,-2.925) 11(3.4,-2.925) 12(3.4,-2.275) 13(3.4,-1.625) 14(3.4,-0.975) 15(3.4,-0.325) 16(3.4,0.325) 17(3.4,0.975) 18(3.4,1.625) 19(3.4,2.275) 20(3.4,2.925)
Top Overlay:
  circle w0.6: c-1.1,2.75 r0.3
  circle w0.25: c-3.4,3.7 r0.125
  lines w0.2: -2.1,-3.75 2.1,-3.75 2.1,3.75 -2.1,3.75 -2.1,-3.75
Body Top:
  circle w0.1: c-1.9,2.85 r0.5
  lines w0.1: -2.8,-3.75 2.8,-3.75 2.8,3.75 -2.8,3.75 -2.8,-3.75
  text ".Designator" at 1.2,-5.5 h1
Courtyard Top:
  lines w0.05: -4.4,-3.85 4.4,-3.85 4.4,3.85 -4.4,3.85 -4.4,-3.85
  lines w0.1: -0.5,0 0.5,0 ; 0,-0.5 0,0.5
3D body: height 2, standoff 0.05, extent -2.8,-3.75 2.8,3.75

## MCHP-SSOP-SS20_M [mm] "SOP, 20-Leads, Body 7.2x5.3mm, Pitch 0.65mm, IPC Low Density"
height 2
pads (20):
  oval 2.4x0.45 smd: 1(-3.5,2.925) 2(-3.5,2.275) 3(-3.5,1.625) 4(-3.5,0.975) 5(-3.5,0.325) 6(-3.5,-0.325) 7(-3.5,-0.975) 8(-3.5,-1.625) 9(-3.5,-2.275) 10(-3.5,-2.925) 11(3.5,-2.925) 12(3.5,-2.275) 13(3.5,-1.625) 14(3.5,-0.975) 15(3.5,-0.325) 16(3.5,0.325) 17(3.5,0.975) 18(3.5,1.625) 19(3.5,2.275) 20(3.5,2.925)
Top Overlay:
  circle w0.25: c-3.5,3.7 r0.125
  circle w0.6: c-0.9,2.75 r0.3
  lines w0.2: -1.9,-3.75 -1.9,3.75 1.9,3.75 1.9,-3.75 -1.9,-3.75
Body Top:
  circle w0.1: c-1.9,2.85 r0.5
  lines w0.1: -2.8,-3.75 -2.8,3.75 2.8,3.75 2.8,-3.75 -2.8,-3.75
  text ".Designator" at 1.2,-5.5 h1
Courtyard Top:
  lines w0.05: -5.2,-4.25 -5.2,4.25 5.2,4.25 5.2,-4.25 -5.2,-4.25
  lines w0.1: -0.5,0 0.5,0 ; 0,-0.5 0,0.5
3D body: height 2, standoff 0.05, extent -2.8,-3.75 2.8,3.75

## MCHP-SSOP-SS20_N [mm] "SOP, 20-Leads, Body 7.2x5.3mm, Pitch 0.65mm, IPC Medium Density"
height 2
pads (20):
  oval 2.1x0.45 smd: 1(-3.45,2.925) 2(-3.45,2.275) 3(-3.45,1.625) 4(-3.45,0.975) 5(-3.45,0.325) 6(-3.45,-0.325) 7(-3.45,-0.975) 8(-3.45,-1.625) 9(-3.45,-2.275) 10(-3.45,-2.925) 11(3.45,-2.925) 12(3.45,-2.275) 13(3.45,-1.625) 14(3.45,-0.975) 15(3.45,-0.325) 16(3.45,0.325) 17(3.45,0.975) 18(3.45,1.625) 19(3.45,2.275) 20(3.45,2.925)
Top Overlay:
  circle w0.25: c-3.45,3.7 r0.125
  circle w0.6: c-1,2.75 r0.3
  lines w0.2: -2,-3.75 -2,3.75 2,3.75 2,-3.75 -2,-3.75
Body Top:
  circle w0.1: c-1.9,2.85 r0.5
  lines w0.1: -2.8,-3.75 -2.8,3.75 2.8,3.75 2.8,-3.75 -2.8,-3.75
  text ".Designator" at 1.2,-5.5 h1
Courtyard Top:
  lines w0.05: -4.75,-4 -4.75,4 4.75,4 4.75,-4 -4.75,-4
  lines w0.1: -0.5,0 0.5,0 ; 0,-0.5 0,0.5
3D body: height 2, standoff 0.05, extent -2.8,-3.75 2.8,3.75

## MCHP-SSOP-SS28_L [mm] "SOP, 28-Leads, Body 10.2x5.3mm, Pitch 0.65mm, IPC High Density"
height 2
pads (28):
  oval 2.1x0.45 smd: 1(-3.45,4.225) 2(-3.45,3.575) 3(-3.45,2.925) 4(-3.45,2.275) 5(-3.45,1.625) 6(-3.45,0.975) 7(-3.45,0.325) 8(-3.45,-0.325) 9(-3.45,-0.975) 10(-3.45,-1.625) 11(-3.45,-2.275) 12(-3.45,-2.925) 13(-3.45,-3.575) 14(-3.45,-4.225) 15(3.45,-4.225) 16(3.45,-3.575) 17(3.45,-2.925) 18(3.45,-2.275) 19(3.45,-1.625) 20(3.45,-0.975) 21(3.45,-0.325) 22(3.45,0.325) 23(3.45,0.975) 24(3.45,1.625) 25(3.45,2.275) 26(3.45,2.925) 27(3.45,3.575) 28(3.45,4.225)
Top Overlay:
  circle w0.6: c-1,4.25 r0.3
  circle w0.25: c-3.45,5 r0.125
  lines w0.2: -2,-5.25 2,-5.25 2,5.25 -2,5.25 -2,-5.25
Body Top:
  circle w0.1: c-1.9,4.35 r0.5
  lines w0.1: -2.8,-5.25 2.8,-5.25 2.8,5.25 -2.8,5.25 -2.8,-5.25
  text ".Designator" at 1.2,-5.5 h1
Courtyard Top:
  lines w0.05: -4.6,-5.35 4.6,-5.35 4.6,5.35 -4.6,5.35 -4.6,-5.35
  lines w0.1: -0.5,0 0.5,0 ; 0,-0.5 0,0.5
3D body: height 2, standoff 0.05, extent -2.8,-5.25 2.8,5.25